# Altium footprint library Diode_SMD.PcbLib: 76 footprints (part 5 of 5)
Each footprint in its own frame and in the unit in brackets; x right, y up, seen from the top. Pads: shape width x height; smd on the part's side, far side on the other; paste and mask are expansions set on the pad; w line width, h text height; cw(c..) or ccw(c..) is an arc to the next point about the centre after c.
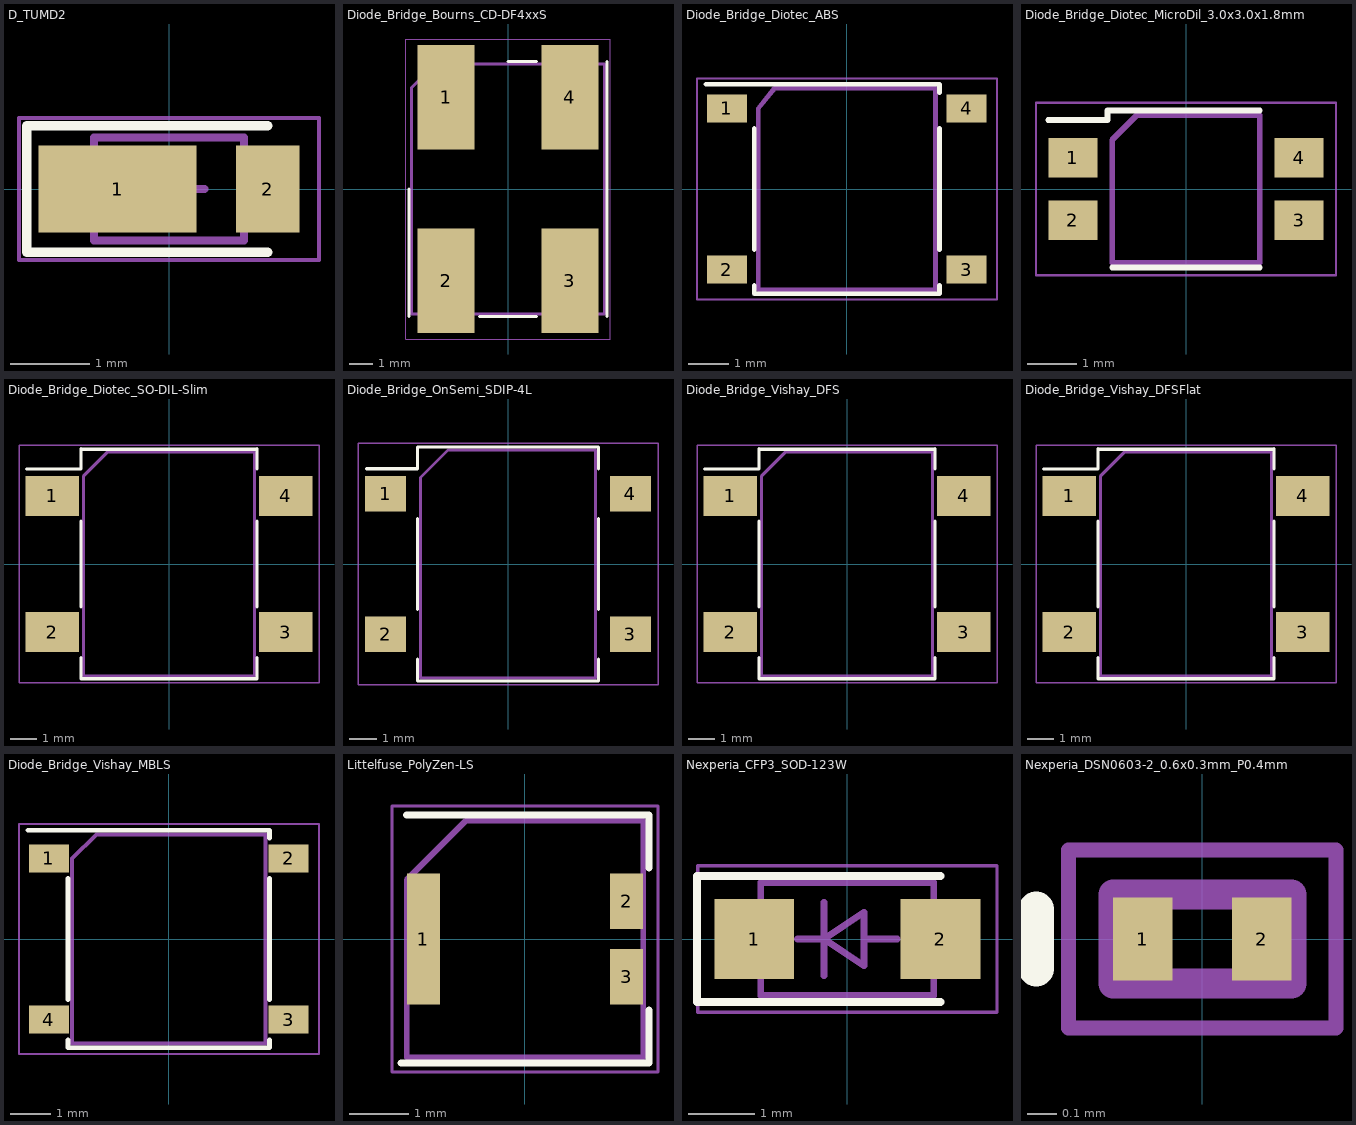
[diagram p4: the footprints below, top view; thin cyan lines are the x and y axes]

## D_TUMD2 [mm]
pads (2):
  rect 2x1.1 smd: 1(-0.65,0)
  rect 0.8x1.1 smd: 2(1.25,0)
F.SilkS:
  lines w0.12: 1.25,-0.8 -1.8,-0.8 -1.8,0.8 1.25,0.8
F.CrtYd:
  lines w0.05: -1.9,-0.9 -1.9,0.9 1.9,0.9 1.9,-0.9 -1.9,-0.9
F.Fab:
  lines w0.1: -0.5,0 -0.3,0 ; -0.3,-0.35 -0.3,0.35 ; 0.2,0 0.45,0 ; -0.3,0 0.2,-0.35 0.2,0.35 -0.3,0 ; -0.95,-0.65 -0.95,0.65 0.95,0.65 0.95,-0.65 -0.95,-0.65
  text "'.Designator'" at -4.047,0.76 h1
3D body "D_TUMD2.step": height 0.62, standoff 0, extent -1.25,-0.65 1.25,0.65

## Diode_Bridge_Bourns_CD-DF4xxS [mm]
pads (4):
  rect 2.4x4.4 smd: 1(-2.6,3.85) 2(-2.6,-3.85) 3(2.6,-3.85) 4(2.6,3.85)
F.SilkS:
  lines w0.12: -4.16,-5.36 -4.16,0 ; -1.2,-5.36 1.2,-5.36 ; 0,5.36 1.2,5.36 ; 4.16,-5.36 4.16,5.36
F.CrtYd:
  lines w0.05: -4.3,-6.3 4.3,-6.3 4.3,6.3 -4.3,6.3 -4.3,-6.3
F.Fab:
  lines w0.12: -4.05,-5.25 -4.05,4.25 -3.05,5.25 4.05,5.25 4.05,-5.25 -4.05,-5.25
  text "'.Designator'" at -4.047,-0.84 h1

## Diode_Bridge_Diotec_ABS [mm]
pads (4):
  rect 1x0.7 smd: 1(-2.975,2) 2(-2.975,-2) 3(2.975,-2) 4(2.975,2)
F.SilkS:
  lines w0.12: -3.5,2.6 2.3,2.6 2.3,2.4 ; -2.3,-2.4 -2.3,-2.6 2.3,-2.6 2.3,-2.4 ; -2.3,-1.5 -2.3,1.5 ; 2.3,-1.5 2.3,1.5
F.CrtYd:
  lines w0.05: -3.72,-2.75 -3.72,2.75 3.73,2.75 3.73,-2.75 -3.72,-2.75
F.Fab:
  lines w0.12: -2.2,-2.5 -2.2,2 -1.8,2.5 2.2,2.5 2.2,-2.5 -2.2,-2.5
  text "'.Designator'" at -4.047,-0.775 h1
3D body "Diode_Bridge_Diotec_ABS.step": height 1.6, standoff 0, extent -3.1,-2.5 3.1,2.5

## Diode_Bridge_Diotec_MicroDil_3.0x3.0x1.8mm [mm]
pads (4):
  rect 1x0.8 smd: 1(-2.3,0.635) 2(-2.3,-0.635) 3(2.3,-0.635) 4(2.3,0.635)
F.SilkS:
  lines w0.12: -2.8,1.4 -1.6,1.4 -1.6,1.6 1.5,1.6 ; -1.5,-1.6 1.5,-1.6
F.CrtYd:
  lines w0.05: -3.05,-1.75 -3.05,1.75 3.05,1.75 3.05,-1.75 -3.05,-1.75
F.Fab:
  lines w0.12: -1.5,-1.5 1.5,-1.5 1.5,1.5 -1,1.5 -1.5,1 -1.5,-1.5
  text "'.Designator'" at -2.048,-0.38 h0.5
3D body "Diode_Bridge_Diotec_MicroDil_3.0x3.0x1.8mm.step": height 1.8, standoff 0, extent -2.8,-1.5 2.8,1.5

## Diode_Bridge_Diotec_SO-DIL-Slim [mm]
pads (4):
  rect 2x1.5 smd: 1(-4.37,2.55) 2(-4.37,-2.55) 3(4.37,-2.55) 4(4.37,2.55)
F.SilkS:
  lines w0.12: -5.334,3.556 -3.302,3.556 -3.302,4.318 ; -3.3,-3.5 -3.3,-4.3 3.3,-4.3 3.3,-3.5 ; -3.3,-1.6 -3.3,1.6 ; -3.3,4.3 3.3,4.3 ; 3.3,-1.6 3.3,1.6 ; 3.302,3.556 3.302,4.318
F.CrtYd:
  lines w0.05: -5.62,-4.45 5.62,-4.45 5.62,4.45 -5.62,4.45 -5.62,-4.45
F.Fab:
  lines w0.12: -3.2,-4.2 3.2,-4.2 3.2,4.2 -2.3,4.2 -3.2,3.3 -3.2,-4.2
  text "'.Designator'" at -4.047,-0.775 h1
3D body "Diode_Bridge_Diotec_SO-DIL-Slim.step": height 2.7, standoff 0, extent -5.1,-4.15 5.1,4.15

## Diode_Bridge_OnSemi_SDIP-4L [mm]
pads (4):
  rect 1.5x1.3 smd: 1(-4.45,2.55) 2(-4.45,-2.55) 3(4.45,-2.55) 4(4.45,2.55)
F.SilkS:
  lines w0.12: -5.14,3.46 -3.285,3.46 -3.285,4.25 ; -3.285,-3.46 -3.285,-4.25 3.285,-4.25 3.285,-3.46 ; -3.285,-1.64 -3.285,1.64 ; -3.275,4.25 3.275,4.25 ; 3.285,-1.64 3.285,1.64 ; 3.285,3.46 3.285,4.25
F.CrtYd:
  lines w0.05: -5.45,-4.39 -5.45,4.39 5.45,4.39 5.45,-4.39 -5.45,-4.39
F.Fab:
  lines w0.1: -3.175,-4.14 3.175,-4.14 3.175,4.14 -2.175,4.14 -3.175,3.14 -3.175,-4.14
  text "'.Designator'" at -4.047,-0.84 h1

## Diode_Bridge_Vishay_DFS [mm]
pads (4):
  rect 2x1.5 smd: 1(-4.37,2.55) 2(-4.37,-2.55) 3(4.37,-2.55) 4(4.37,2.55)
F.SilkS:
  lines w0.12: -5.334,3.556 -3.302,3.556 -3.302,4.318 ; -3.3,-3.5 -3.3,-4.3 3.3,-4.3 3.3,-3.5 ; -3.3,-1.6 -3.3,1.6 ; -3.3,4.3 3.3,4.3 ; 3.3,-1.6 3.3,1.6 ; 3.302,3.556 3.302,4.318
F.CrtYd:
  lines w0.05: -5.62,-4.45 5.62,-4.45 5.62,4.45 -5.62,4.45 -5.62,-4.45
F.Fab:
  lines w0.12: -3.2,-4.2 -3.2,3.3 -2.3,4.2 3.2,4.2 3.2,-4.2 -3.2,-4.2
  text "'.Designator'" at -4.047,-0.775 h1
3D body "Diode_Bridge_Vishay_DFS.step": height 3.4, standoff 0, extent -5,-4.255 5,4.255

## Diode_Bridge_Vishay_DFSFlat [mm]
pads (4):
  rect 2x1.5 smd: 1(-4.37,2.55) 2(-4.37,-2.55) 3(4.37,-2.55) 4(4.37,2.55)
F.SilkS:
  lines w0.12: -5.334,3.556 -3.302,3.556 -3.302,4.318 ; -3.3,-3.5 -3.3,-4.3 3.3,-4.3 3.3,-3.5 ; -3.3,-1.6 -3.3,1.6 ; -3.3,4.3 3.3,4.3 ; 3.3,-1.6 3.3,1.6 ; 3.302,3.556 3.302,4.318
F.CrtYd:
  lines w0.05: -5.62,-4.45 -5.62,4.45 5.62,4.45 5.62,-4.45 -5.62,-4.45
F.Fab:
  lines w0.12: -3.2,-4.2 3.2,-4.2 3.2,4.2 -2.3,4.2 -3.2,3.3 -3.2,-4.2
  text "'.Designator'" at -4.047,-0.775 h1
3D body "Diode_Bridge_Vishay_DFSFlat.step": height 2.6, standoff 0, extent -5,-4.255 5,4.255

## Diode_Bridge_Vishay_MBLS [mm]
pads (4):
  rect 1x0.7 smd: 1(-2.975,2) 2(2.975,2) 3(2.975,-2) 4(-2.975,-2)
F.SilkS:
  lines w0.12: -3.5,2.7 2.5,2.7 2.5,2.5 ; -2.5,-2.5 -2.5,-2.7 2.5,-2.7 2.5,-2.5 ; -2.5,-1.5 -2.5,1.5 ; 2.5,-1.5 2.5,1.5
F.CrtYd:
  lines w0.05: -3.72,-2.85 -3.72,2.85 3.73,2.85 3.73,-2.85 -3.72,-2.85
F.Fab:
  lines w0.1: -2.4,-2.6 -2.4,2 -1.8,2.6 2.4,2.6 2.4,-2.6 -2.4,-2.6
  text "'.Designator'" at -4.047,-0.84 h1
3D body "Diode_Bridge_Vishay_MBLS.step": height 1.63, standoff 0, extent -3.1,-2.55 3.1,2.55

## Littelfuse_PolyZen-LS [mm]
pads (3):
  rect 0.56x2.21 smd: 1(-1.72,0)
  rect 0.56x0.94 smd: 2(1.72,0.635) 3(1.72,-0.635)
F.SilkS:
  lines w0.12: -2.1,-2.1 2.1,-2.1 2.1,-1.2 ; -2,2.1 2.1,2.1 2.1,1.2
F.CrtYd:
  lines w0.05: -2.25,-2.25 2.25,-2.25 2.25,2.25 -2.25,2.25 -2.25,-2.25
F.Fab:
  lines w0.1: -2,-2 2,-2 2,2 -1,2 -2,1 -2,-2
  text "'.Designator'" at -3.467,-0.84 h1

## Nexperia_CFP3_SOD-123W [mm]
pads (2):
  rect 1.2x1.2 smd: 1(-1.4,0) 2(1.4,0)
F.SilkS:
  lines w0.12: 1.4,-0.95 -2.26,-0.95 -2.26,0.95 1.4,0.95
F.CrtYd:
  lines w0.05: -2.25,-1.1 -2.25,1.1 2.25,1.1 2.25,-1.1 -2.25,-1.1
F.Fab:
  lines w0.1: -0.75,0 -0.35,0 ; -0.35,-0.55 -0.35,0.55 ; 0.25,0 0.75,0 ; -0.35,0 0.25,-0.4 0.25,0.4 -0.35,0 ; -1.3,-0.85 1.3,-0.85 1.3,0.85 -1.3,0.85 -1.3,-0.85
  text "'.Designator'" at -4.047,1.16 h1

## Nexperia_DSN0603-2_0.6x0.3mm_P0.4mm [mm]
pads (2):
  rect 0.2x0.28 smd: 1(-0.2,0) 2(0.2,0)
F.SilkS:
  lines w0.12: -0.56,-0.1 -0.56,0.1
F.Paste:
  circle w0: c0.208,0 r0.128
  region: 0.306,0.098 0.347,0 0.306,-0.098 0.208,-0.139 0.11,-0.098 0.069,0 0.11,0.098 0.208,0.139
  circle w0: c-0.208,0 r0.128
  region: -0.11,0.098 -0.069,0 -0.11,-0.098 -0.208,-0.139 -0.306,-0.098 -0.347,0 -0.306,0.098 -0.208,0.139
F.CrtYd:
  lines w0.05: -0.45,-0.3 -0.45,0.3 0.45,0.3 0.45,-0.3 -0.45,-0.3
F.Fab:
  region: -0.2,-0.15 -0.3,-0.15 -0.3,0.15 -0.2,0.15
  lines w0.1: -0.3,-0.15 -0.3,0.15 ; -0.3,-0.15 0.3,-0.15 0.3,0.15 -0.3,0.15 ; -0.3,-0.15 -0.3,0.15 ; -0.3,-0.15 -0.2,-0.15 -0.2,0.15 -0.3,0.15
  text "'.Designator'" at -1.014,0.287 h0.25